# Altium footprint library HC49S.PcbLib: 1 footprints
Each footprint in its own frame and in the unit in brackets; x right, y up, seen from the top. Pads: shape width x height; smd on the part's side, far side on the other; paste and mask are expansions set on the pad; w line width, h text height; cw(c..) or ccw(c..) is an arc to the next point about the centre after c.
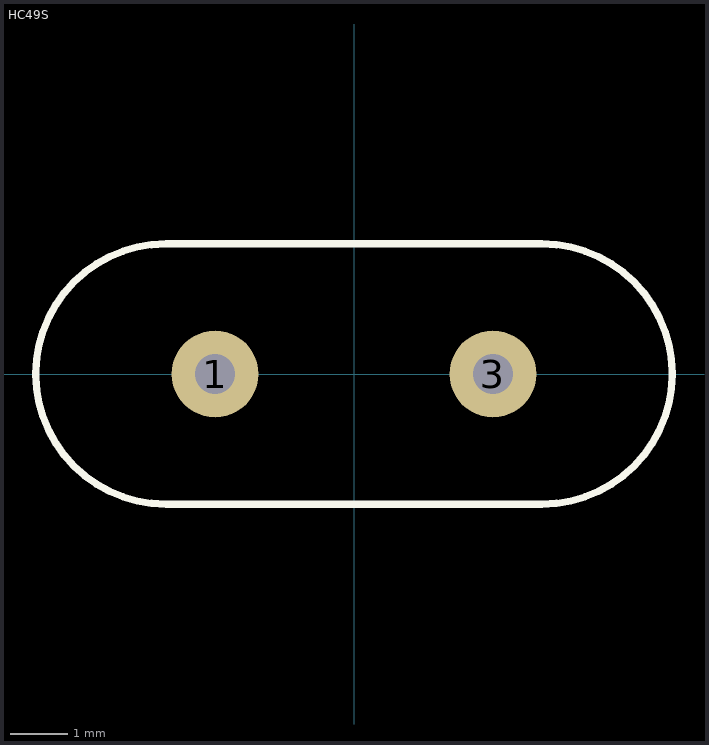
[diagram p0: the footprint, top view; thin cyan lines are the x and y axes]

## HC49S [mil]
height 137.8
pads (2):
  round 60 hole 27.56: 1(-96.06,0) 3(96.06,0)
Top Overlay:
  lines w5: -130,-90 cw(c-130,0) -130,90 130,90 cw(c130,0) 130,-90 -130,-90
3D body: height 141.73, standoff -118.11, extent -216.14,-88.23 216.14,88.58